# Altium footprint library 19v library3_12_2018.PcbLib: 7 footprints
Each footprint in its own frame and in the unit in brackets; x right, y up, seen from the top. Pads: shape width x height; smd on the part's side, far side on the other; paste and mask are expansions set on the pad; w line width, h text height; cw(c..) or ccw(c..) is an arc to the next point about the centre after c.
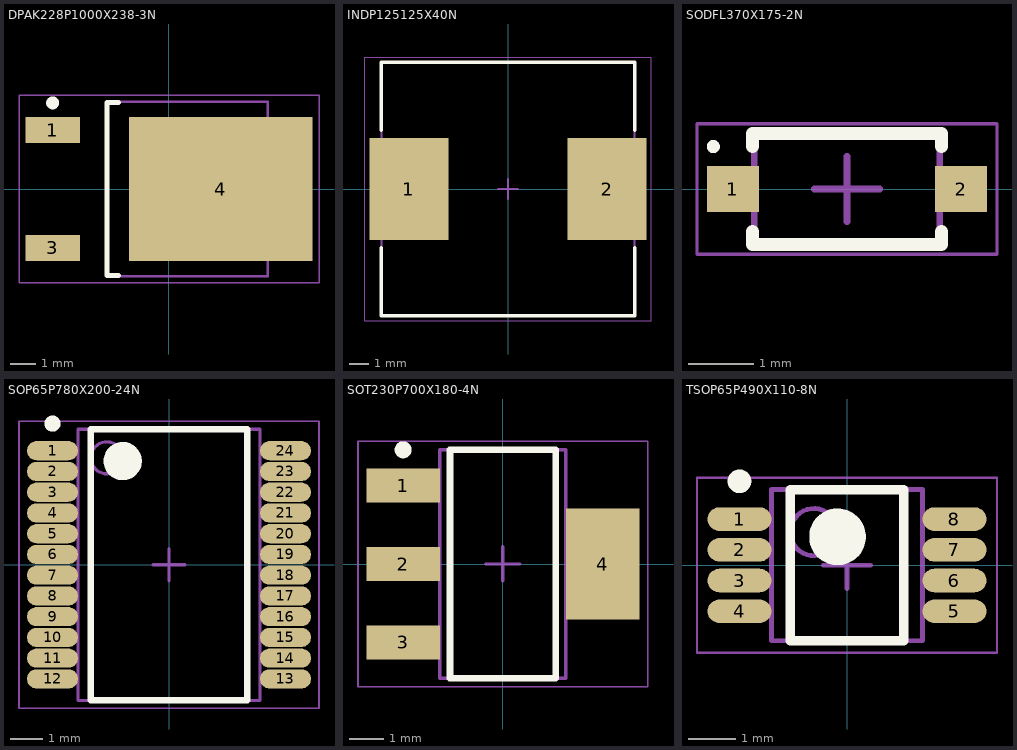
[diagram p0: the footprints below, top view; thin cyan lines are the x and y axes]

## DPAK228P1000X238-3N [mm] "D-PAK, 3-Pads, Body 6.21x6.73mm (max), IPC Medium Density"
height 2.38
pads (3):
  rect 2.1x1 smd: 1(-4.5,2.28) 3(-4.5,-2.28)
  rect 7.1x5.55 smd: 4(2,0)
Top Overlay:
  circle w0.25: c-4.5,3.33 r0.125
  lines w0.2: -1.95,-3.35 -2.4,-3.35 -2.4,3.35 -1.95,3.35
Mechanical 13:
  lines w0.1: -2.4,-3.375 -2.4,3.375 3.82,3.375 3.82,-3.375 -2.4,-3.375
Mechanical 15:
  lines w0.05: -5.8,-3.625 -5.8,3.625 5.8,3.625 5.8,-3.625 -5.8,-3.625
  lines w0.1: -0.5,0 0.5,0 ; 0,-0.5 0,0.5
3D body: height 2.38, standoff 0, extent -2.4,-3.375 3.82,3.375

## INDP125125X40N [mm] "Precision Wire Wound Inductor, 2-Leads, Body 12.50x12.50mm, IPC Medium Density"
height 4.05
pads (2):
  rect 4x5.15 smd: 1(-5,0) 2(5,0)
Top Overlay:
  lines w0.2: -6.4,-2.975 -6.4,-6.4 6.4,-6.4 6.4,-2.975 ; -6.4,2.975 -6.4,6.4 6.4,6.4 6.4,2.975
Mechanical 13:
  lines w0.1: -6.4,-6.4 6.4,-6.4 6.4,6.4 -6.4,6.4 -6.4,-6.4
Mechanical 15:
  lines w0.05: -7.225,-6.65 7.225,-6.65 7.225,6.65 -7.225,6.65 -7.225,-6.65
  lines w0.1: -0.5,0 0.5,0 ; 0,-0.5 0,0.5
3D body: height 4.05, standoff 0, extent -6.4,-6.4 6.4,6.4

## PCBComponent_1 - duplicate [mm]

## SODFL370X175-2N [mm] "SODFL, 2-Leads, Body 1.55x3.70mm, IPC Medium Density"
height 1.75
pads (2):
  rect 0.8x0.7 smd: 1(-7,0) 2(-3.5,0)
Top Overlay:
  circle w0.1: c-7.3,0.65 r0.05
  lines w0.2: -6.7,-0.65 -6.7,-0.85 -3.8,-0.85 -3.8,-0.65 ; -6.7,0.65 -6.7,0.85 -3.8,0.85 -3.8,0.65
Mechanical 13:
  lines w0.1: -6.675,-0.85 -6.675,0.85 -3.825,0.85 -3.825,-0.85 -6.675,-0.85
Mechanical 15:
  lines w0.05: -7.55,-1 -7.55,1 -2.95,1 -2.95,-1 -7.55,-1
  lines w0.1: -5.75,0 -4.75,0 ; -5.25,-0.5 -5.25,0.5
3D body: height 1.75, standoff 0, extent -6.675,-0.85 -3.825,0.85

## SOP65P780X200-24N [mm] "SOP, 24-Leads, Body 8.20x5.50mm, Pitch 0.65mm, IPC Medium Density"
height 2
pads (24):
  oval 1.6x0.6 smd: 1(-3.65,3.575) 2(-3.65,2.925) 3(-3.65,2.275) 4(-3.65,1.625) 5(-3.65,0.975) 6(-3.65,0.325) 7(-3.65,-0.325) 8(-3.65,-0.975) 9(-3.65,-1.625) 10(-3.65,-2.275) 11(-3.65,-2.925) 12(-3.65,-3.575) 13(3.65,-3.575) 14(3.65,-2.925) 15(3.65,-2.275) 16(3.65,-1.625) 17(3.65,-0.975) 18(3.65,-0.325) 19(3.65,0.325) 20(3.65,0.975) 21(3.65,1.625) 22(3.65,2.275) 23(3.65,2.925) 24(3.65,3.575)
Top Overlay:
  circle w0.25: c-3.65,4.425 r0.125
  circle w0.6: c-1.45,3.25 r0.3
  lines w0.2: -2.45,-4.25 -2.45,4.25 2.45,4.25 2.45,-4.25 -2.45,-4.25
Mechanical 13:
  circle w0.1: c-1.95,3.35 r0.5
  lines w0.1: -2.85,-4.25 -2.85,4.25 2.85,4.25 2.85,-4.25 -2.85,-4.25
Mechanical 15:
  lines w0.05: -4.7,-4.5 -4.7,4.5 4.7,4.5 4.7,-4.5 -4.7,-4.5
  lines w0.1: -0.5,0 0.5,0 ; 0,-0.5 0,0.5
3D body: height 2, standoff 0.1, extent -2.85,-4.25 2.85,4.25

## SOT230P700X180-4N [mm] "SOT223, 4-Leads, Body 6.50x7.00mm (avg), Pitch 2.30mm, IPC Medium Density"
height 1.8
pads (4):
  rect 2.15x1 smd: 1(-2.925,2.3) 2(-2.925,0) 3(-2.925,-2.3)
  rect 2.15x3.25 smd: 4(2.925,0)
Top Overlay:
  circle w0.25: c-2.925,3.35 r0.125
  lines w0.2: -1.55,-3.35 1.55,-3.35 1.55,3.35 -1.55,3.35 -1.55,-3.35
Mechanical 13:
  lines w0.1: -1.85,-3.35 1.85,-3.35 1.85,3.35 -1.85,3.35 -1.85,-3.35
Mechanical 15:
  lines w0.05: -4.25,-3.6 4.25,-3.6 4.25,3.6 -4.25,3.6 -4.25,-3.6
  lines w0.1: -0.5,0 0.5,0 ; 0,-0.5 0,0.5

## TSOP65P490X110-8N [mm] "TSOP, 8-Leads, Body 3.00x3.00mm, Pitch 0.65mm, IPC Medium Density"
height 1.1
pads (8):
  oval 1.35x0.5 smd: 1(-2.275,0.975) 2(-2.275,0.325) 3(-2.275,-0.325) 4(-2.275,-0.975) 5(2.275,-0.975) 6(2.275,-0.325) 7(2.275,0.325) 8(2.275,0.975)
Top Overlay:
  circle w0.25: c-2.275,1.775 r0.125
  circle w0.6: c-0.2,0.6 r0.3
  lines w0.2: -1.2,-1.6 -1.2,1.6 1.2,1.6 1.2,-1.6 -1.2,-1.6
Mechanical 13:
  circle w0.1: c-0.7,0.7 r0.5
  lines w0.1: -1.6,-1.6 -1.6,1.6 1.6,1.6 1.6,-1.6 -1.6,-1.6
Mechanical 15:
  lines w0.05: -3.175,-1.85 -3.175,1.85 3.175,1.85 3.175,-1.85 -3.175,-1.85
  lines w0.1: -0.5,0 0.5,0 ; 0,-0.5 0,0.5
3D body: height 1.1, standoff 0.05, extent -1.6,-1.6 1.6,1.6